# Altium schematic symbol library ES1G.SchLib: 1 symbol
Pins are listed as number, name and electrical type; pins without a type are passive.

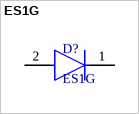
[diagram p0: symbol ES1G]

## ES1G
designator D?
Ultrafast
footprint FP-403AE-MFG
pins: 1 C, 2 A